# Altium footprint library 826629_2.PcbLib: 1 footprints
Each footprint in its own frame and in the unit in brackets; x right, y up, seen from the top. Pads: shape width x height; smd on the part's side, far side on the other; paste and mask are expansions set on the pad; w line width, h text height; cw(c..) or ccw(c..) is an arc to the next point about the centre after c.
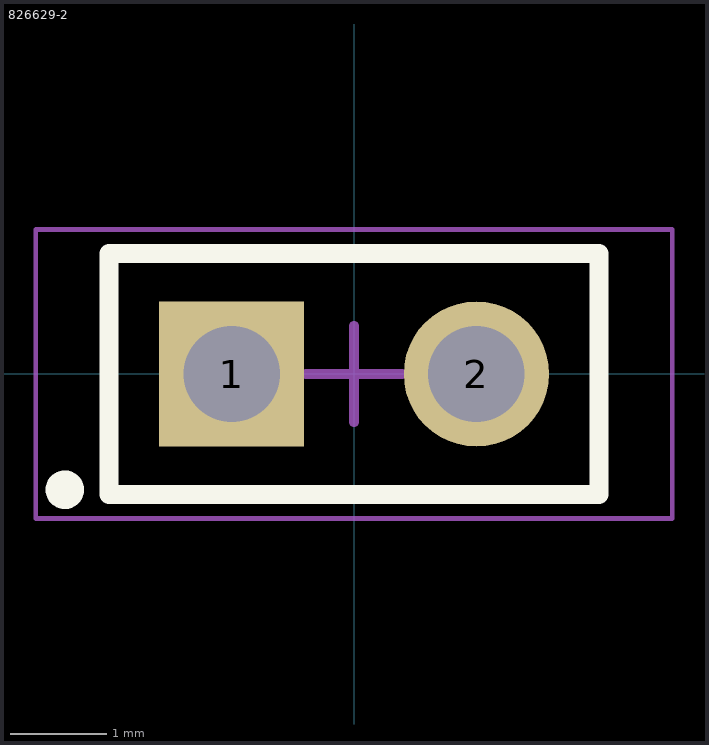
[diagram p0: the footprint, top view; thin cyan lines are the x and y axes]

## 826629-2 [mm]
height 9.5
pads (2):
  rect 1.508x1.508 hole 1: 1(-1.27,0)
  round 1.508 hole 1: 2(1.27,0)
Top Overlay:
  circle w0.2: c-3,-1.2 r0.1
  lines w0.2: -2.54,-1.25 -2.54,1.25 2.54,1.25 2.54,-1.25 -2.54,-1.25
Top Comment:
  text ".Comment" at 1.1,1.7 h1.2
Top Designator:
  text ".Designator" at -0.5,1.7 h1.2
Top Component Outline:
  lines w0.1: -2.54,-1.25 2.54,-1.25 2.54,1.25 -2.54,1.25 -2.54,-1.25
Top Courtyard:
  lines w0.05: -3.3,-1.5 -3.3,1.5 3.3,1.5 3.3,-1.5 -3.3,-1.5
  lines w0.1: -0.5,0 0.5,0 ; 0,-0.5 0,0.5
3D body "826629-2--3DModel-STEP-1.STEP": height 9.49, standoff -3.21, extent -2.54,-1.25 2.54,1.25